# EAGLE library part USBC (library USBC)
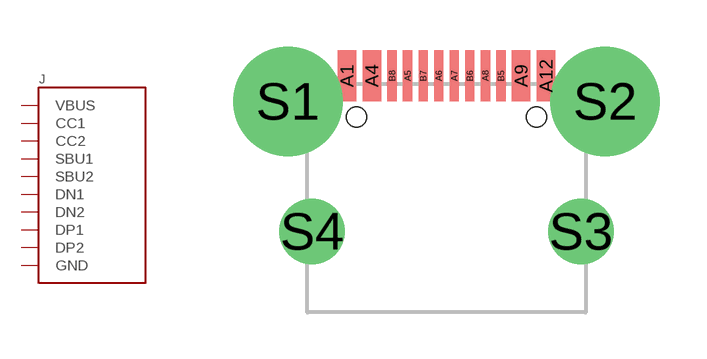
[diagram p0: symbol with the pads of USBC; footprint USBC]

Designator prefix J

## USBC  [USBC]
A1  GND
A4  VBUS
A5  CC1
A6  DP1
A7  DN1
A8  SBU1
A9  VBUS
A12  GND
B5  CC2
B6  DP2
B7  DN2
B8  SBU2
S1  GND
S2  GND
S3  GND
S4  GND

## Footprint USBC (pad centres in mm)
smd 0.6 x 1.65: A1 -3.2,5.005; A4 -2.4,5.005; A9 2.4,5.005; A12 3.2,5.005
smd 0.3 x 1.65: A5 -1.25,5.005; A6 -0.25,5.005; A7 0.25,5.005; A8 1.25,5.005; B5 1.75,5.005; B6 0.75,5.005; B7 -0.75,5.005; B8 -1.75,5.005
drill 2.5 pad 2.9: S1 -5.1,4.18; S2 5.1,4.18
drill 1.4 pad 1.8: S3 4.32,0; S4 -4.32,0
hole 0.65 at -2.89,3.68
hole 0.65 at 2.89,3.68